# Altium footprint library KN2CLib.PcbLib: 180 footprints (part 3 of 12)
Each footprint in its own frame and in the unit in brackets; x right, y up, seen from the top. Pads: shape width x height; smd on the part's side, far side on the other; paste and mask are expansions set on the pad; w line width, h text height; cw(c..) or ccw(c..) is an arc to the next point about the centre after c.
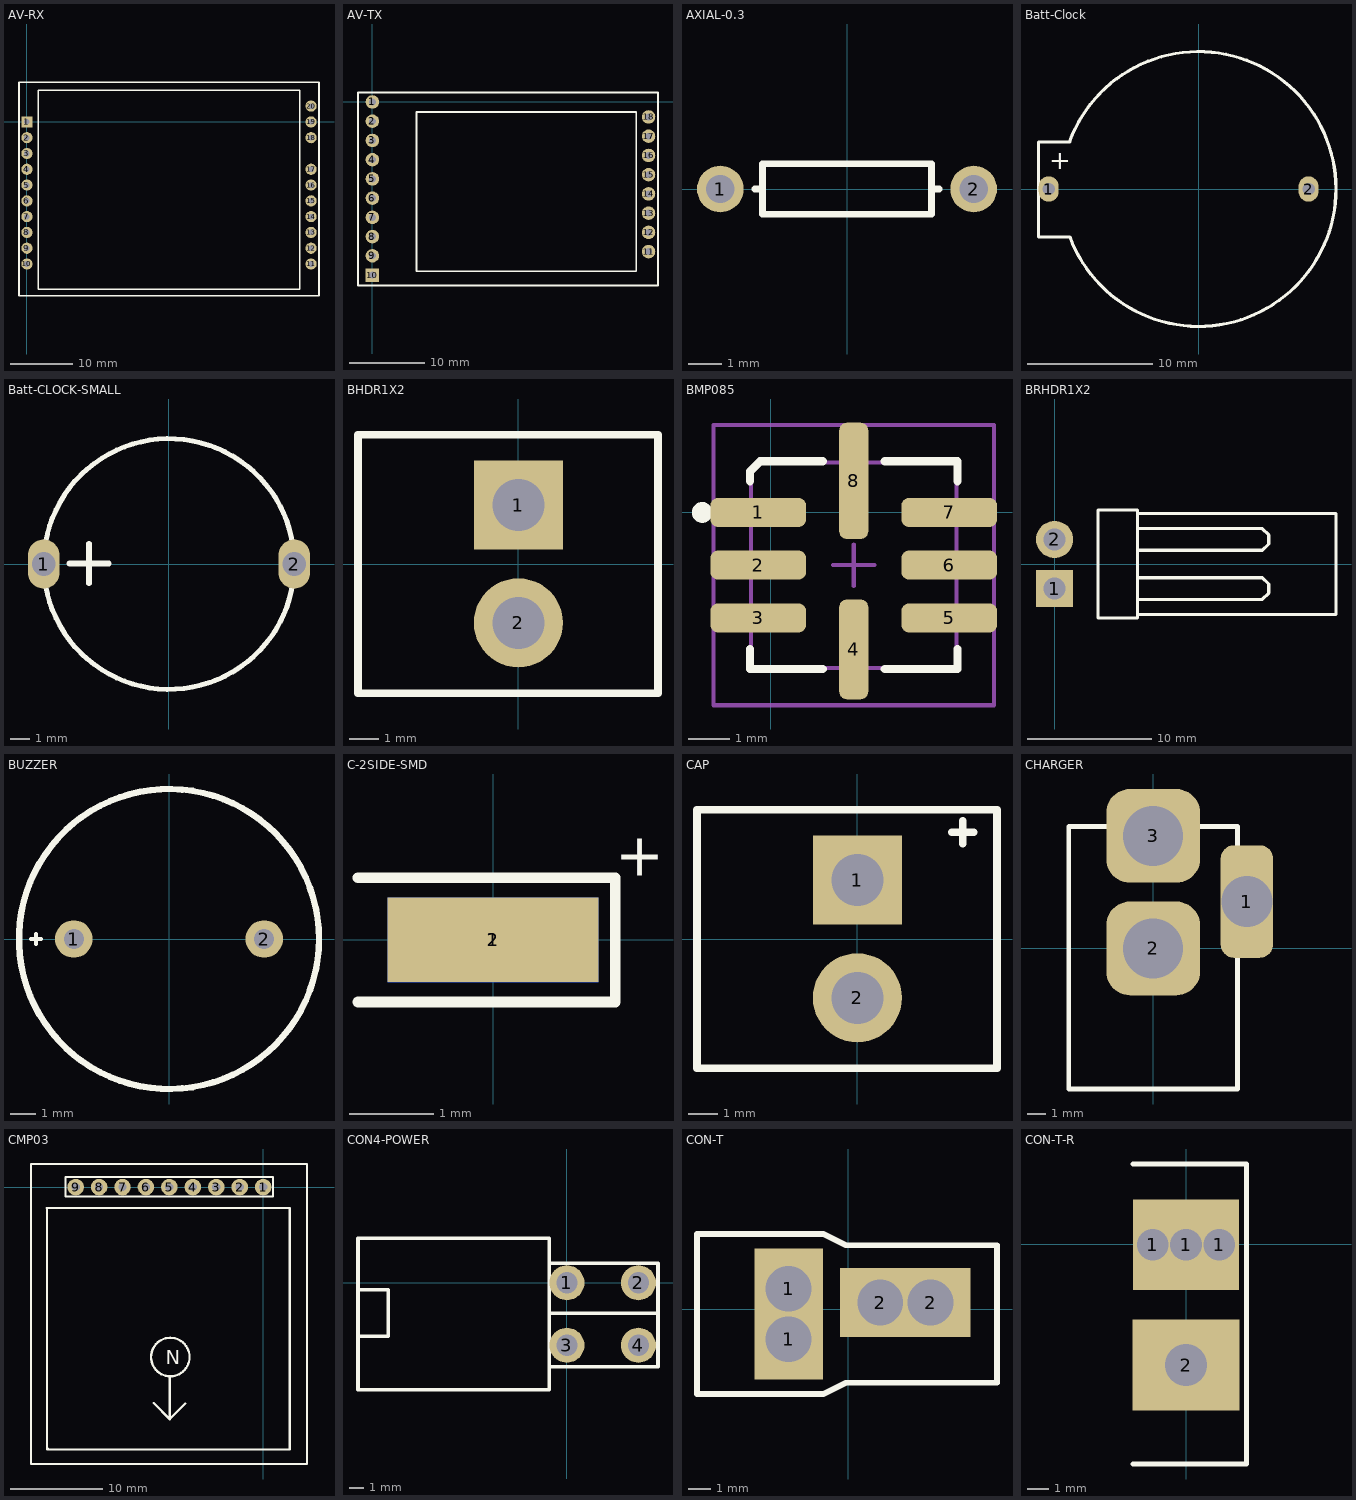
[diagram p2: the footprints below, top view; thin cyan lines are the x and y axes]

## AV-RX [mm]
pads (20):
  rect 1.8x1.8 hole 0.9: 1(0,0)
  round 1.8 hole 0.9: 2(0,-2.54) 3(0,-5.08) 4(0,-7.62) 5(0,-10.16) 6(0,-12.7) 7(0,-15.24) 8(0,-17.78) 9(0,-20.32) 10(0,-22.86) 11(45.72,-22.86) 12(45.72,-20.32) 13(45.72,-17.78) 14(45.72,-15.24) 15(45.72,-12.7) 16(45.72,-10.16) 17(45.72,-7.62) 18(45.72,-2.54) 19(45.72,0) 20(45.72,2.54)
Top Overlay:
  lines w0.254: 1.854,-26.92 1.854,5.08 43.854,5.08 ; 1.866,-26.924 43.866,-26.924 43.866,5.076 ; -1.27,-27.94 -1.27,6.35 46.99,6.35 46.99,-27.94 -1.27,-27.94
3D body: height 7.9, standoff 3.5, extent 1.803,-26.899 43.866,5.08
3D body: height 3.5, standoff 2.5, extent -1.295,-27.94 47.015,6.375
3D body: height 4, standoff 0, extent -0.498,-23.343 0.498,-22.345
3D body: height 4, standoff 0, extent -0.498,-20.803 0.498,-19.805
3D body: height 4, standoff 0, extent -0.498,-15.723 0.498,-14.725
3D body: height 4, standoff 0, extent -0.498,-18.263 0.498,-17.265
3D body: height 4, standoff 0, extent -0.498,-10.643 0.498,-9.645
3D body: height 4, standoff 0, extent -0.498,-13.183 0.498,-12.185
3D body: height 4, standoff 0, extent -0.498,-5.563 0.498,-4.565
3D body: height 4, standoff 0, extent -0.498,-8.103 0.498,-7.105
3D body: height 4, standoff 0, extent -0.498,-0.483 0.498,0.515
3D body: height 4, standoff 0, extent -0.498,-3.023 0.498,-2.025
3D body: height 4, standoff 0, extent 45.222,2.057 46.218,3.055
3D body: height 4, standoff 0, extent 45.222,-0.483 46.218,0.515
3D body: height 4, standoff 0, extent 45.222,-8.103 46.218,-7.105
3D body: height 4, standoff 0, extent 45.222,-10.643 46.218,-9.645
3D body: height 4, standoff 0, extent 45.222,-13.183 46.218,-12.185
3D body: height 4, standoff 0, extent 45.222,-15.723 46.218,-14.725
3D body: height 4, standoff 0, extent 45.222,-18.263 46.218,-17.265
3D body: height 4, standoff 0, extent 45.222,-20.803 46.218,-19.805
3D body: height 4, standoff 0, extent 45.222,-23.343 46.218,-22.345
3D body: height 4, standoff 0, extent 45.222,-3.023 46.218,-2.025

## AV-TX [mm]
pads (18):
  round 1.78 hole 0.9: 1(0,0) 2(0,-2.54) 3(0,-5.08) 4(0,-7.62) 5(0,-10.16) 6(0,-12.7) 7(0,-15.24) 8(0,-17.78) 9(0,-20.32) 11(36.471,-19.761) 12(36.471,-17.221) 13(36.471,-14.681) 14(36.471,-12.141) 15(36.471,-9.601) 16(36.471,-7.061) 17(36.471,-4.521) 18(36.471,-1.981)
  rect 1.78x1.78 hole 0.9: 10(0,-22.86)
Top Overlay:
  lines w0.254: 34.823,-22.352 5.842,-22.352 5.842,-1.346 34.845,-1.346 34.845,-22.352 ; -1.905,-24.257 -1.905,1.27 37.719,1.27 37.719,-24.257 -1.905,-24.257
3D body: height 4, standoff 0, extent -0.498,-23.343 0.498,-22.345
3D body: height 4, standoff 0, extent -0.498,-20.803 0.498,-19.805
3D body: height 4, standoff 0, extent -0.498,-15.723 0.498,-14.725
3D body: height 4, standoff 0, extent -0.498,-18.263 0.498,-17.265
3D body: height 4, standoff 0, extent -0.498,-10.643 0.498,-9.645
3D body: height 4, standoff 0, extent -0.498,-13.183 0.498,-12.185
3D body: height 4, standoff 0, extent -0.498,-5.563 0.498,-4.565
3D body: height 4, standoff 0, extent -0.498,-8.103 0.498,-7.105
3D body: height 4, standoff 0, extent -0.498,-0.483 0.498,0.515
3D body: height 4, standoff 0, extent -0.498,-3.023 0.498,-2.025
3D body: height 7.9, standoff 3.5, extent 5.462,-22.377 34.95,-1.397
3D body: height 3.5, standoff 2.5, extent -1.796,-24.359 37.871,1.422
3D body: height 4, standoff 0, extent 35.976,-5.029 36.972,-4.031
3D body: height 4, standoff 0, extent 35.976,-2.489 36.972,-1.491
3D body: height 4, standoff 0, extent 35.976,-10.109 36.972,-9.111
3D body: height 4, standoff 0, extent 35.976,-7.569 36.972,-6.571
3D body: height 4, standoff 0, extent 35.976,-15.189 36.972,-14.191
3D body: height 4, standoff 0, extent 35.976,-12.649 36.972,-11.651
3D body: height 4, standoff 0, extent 35.976,-20.269 36.972,-19.271
3D body: height 4, standoff 0, extent 35.976,-17.729 36.972,-16.731

## AXIAL-0.3 [mm]
height 1.524
pads (2):
  round 1.4 hole 0.85: 1(-3.81,0) 2(3.81,0)
Top Overlay:
  lines w0.2: -2.769,0 -2.54,0 ; 2.769,0 2.54,0 ; 2.54,0 2.54,-0.762 -2.54,-0.762 -2.54,0.762 2.54,0.762 2.54,0
3D body: height 2, standoff 0, extent -2.85,-0.875 2.85,0.875

## Batt-Clock [mm] "Clock-Battery-3V-CR2032"
pads (2):
  oval 1.6x2.032 hole 1: 1(-12,0) 2(8.8,0)
Top Overlay:
  lines w0.254: -12.827,3.759 -12.827,-3.835 -10.287,-3.835 ; -12.812,3.759 -10.312,3.759 ; -10.333,3.773 cw(c0,0) -10.31,-3.835
  text "+" at -11.938,1.575 h1.52

## Batt-CLOCK-SMALL [mm]
pads (2):
  oval 1.6x2.5 hole 1.2: 1(-6.35,0) 2(6.35,0)
Top Overlay:
  circle w0.254: c0,0 r6.35
  lines w0.3: -5.051,0.025 -3.051,0.025 ; -4.051,-0.975 -4.051,1.025
3D body: height 3, standoff 0.5, extent -5.953,-5.988 6,5.988

## BHDR1X2 [mm]
pads (2):
  rect 3x3 hole 1.75: 1(0,1.98)
  round 3 hole 1.75: 2(0,-1.98)
Top Overlay:
  lines w0.254: -5.4,-4.355 -5.4,4.355 4.7,4.355 4.7,-4.355 -5.4,-4.355
3D body: height 12.5, standoff 0, extent -5.525,-4.475 4.775,4.475

## BMP085 [mm] "LCC, 8-Pins"
height 1.2
pads (8):
  rrect50% 2.3x0.7 smd: 1(-0.3,0) 2(-0.3,-1.27) 3(-0.3,-2.54) 5(4.3,-2.54) 6(4.3,-1.27) 7(4.3,0)
  rrect50% 0.7x2.4 smd: 4(2,-3.3)
  rrect50% 0.7x2.8 smd: 8(2,0.76)
Top Overlay:
  circle w0.25: c-1.65,0 r0.125
  lines w0.2: -0.5,-3.29 -0.5,-3.77 1.25,-3.77 ; -0.5,0.75 -0.5,0.99 -0.26,1.23 1.25,1.23 ; 2.75,-3.77 4.5,-3.77 4.5,-3.29 ; 2.75,1.23 4.5,1.23 4.5,0.75
Mechanical 13:
  lines w0.1: -0.475,-3.745 -0.475,0.965 -0.235,1.205 4.475,1.205 4.475,-3.745 -0.475,-3.745
Mechanical 15:
  lines w0.1: 1.5,-1.27 2.5,-1.27 ; 2,-1.77 2,-0.77 ; -1.375,-4.645 -1.375,2.105 5.375,2.105 5.375,-4.645 -1.375,-4.645
3D body: height 1.2, standoff 0, extent -0.475,-3.745 4.475,1.205

## BRHDR1X2 [mm]
pads (2):
  rect 3x3 hole 1.75: 1(0,-1.98)
  round 3 hole 1.75: 2(0,1.98)
Top Overlay:
  lines w0.254: 6.7,-4.064 22.7,-4.064 22.7,4.064 6.7,4.064 ; 6.7,-2.855 16.764,-2.855 17.272,-2.347 17.272,-1.613 16.764,-1.105 6.7,-1.105 ; 6.7,1.105 16.764,1.105 17.272,1.613 17.272,2.347 16.764,2.855 6.7,2.855 ; 3.5,-4.355 6.7,-4.355 6.7,4.355 3.5,4.355 3.5,-4.355
3D body: height 4.5, standoff 3.4, extent -1.55,-3.525 3.55,3.625
3D body: height 9.2, standoff 0, extent 3.375,-4.525 22.85,4.525

## BUZZER [mm]
pads (2):
  round 1.5 hole 0.8: 1(-3.81,0) 2(3.81,0)
Top Overlay:
  circle w0.254: c0,0 r6
  lines w0.15: -5.516,0 -5.116,0 ; -5.316,-0.2 -5.316,0.2
3D body: height 9.3, standoff 0, extent -5.975,-6 5.975,5.975

## C-2SIDE-SMD [mm] "CAP - OUTSIDE BOARD"
pads (2):
  rect 2.5x1 smd: 1(0,0)
  rect 2.5x1 smd far side: 2(0,0)
Top Overlay:
  lines w0.127: -1.6,-0.737 1.448,-0.737 1.448,0.737 -1.6,0.737
  text "+" at 1.448,0.762 h0.51
Bottom Overlay:
  lines w0.127: -1.6,-0.737 1.448,-0.737 1.448,0.737 -1.6,0.737

## CAP [mm]
pads (2):
  rect 3x3 hole 1.75: 1(0,1.98)
  round 3 hole 1.75: 2(0,-1.98)
Top Overlay:
  lines w0.254: 3.185,3.597 3.912,3.597 ; 3.548,3.2 3.548,3.978 ; -5.4,-4.355 -5.4,4.355 4.7,4.355 4.7,-4.355 -5.4,-4.355
3D body: height 12.5, standoff 0, extent -5.525,-4.5 4.825,4.475

## CHARGER [mm]
pads (3):
  rrect50% 2.8x6 hole 2.7: 1(5,2.5)
  rrect50% 5x5 hole 3.2: 2(0,0) 3(0,6)
Top Overlay:
  lines w0.254: -4.5,-7.5 4.5,-7.5 4.5,6.5 -4.5,6.5 -4.5,-7.5
3D body: height 11.6, standoff 0, extent -4.625,-7.6 4.6,6.6

## CMP03 [mm]
pads (9):
  round 1.8 hole 0.9: 1(0,0) 2(-2.54,0) 3(-5.08,0) 4(-7.62,0) 5(-10.16,0) 6(-12.7,0) 7(-15.24,0) 8(-17.78,0) 9(-20.32,0)
Top Overlay:
  circle w0.254: c-10.061,-18.415 r2.085
  lines w0.254: -25.16,2.5 -25.16,-30 4.74,-30 4.74,2.5 ; -25.147,2.5 4.753,2.5 ; -23.317,-28.321 -23.419,-28.423 ; -11.862,-23.393 -10.135,-25.121 -10.135,-25.146 ; -10.135,-20.523 -10.135,-25.171 -10.135,-25.146 ; -8.433,-23.444 -10.135,-25.146 ; 2.87,-28.397 2.87,-2.261 -23.444,-2.261 -23.419,-2.286 -23.419,-28.423 ; 2.896,-28.423 -23.419,-28.423 ; -21.412,-1.016 -21.412,1.092 1.067,1.092 1.067,-1.016 -21.412,-1.016
  text "N" at -10.566,-19.177 h1.52

## CON4-POWER [mm] "CON4-For POWER-Right"
pads (4):
  round 2.5 hole 1.5: 1(0,0) 2(5.08,0) 3(0,-4.445) 4(5.08,-4.445)
Top Overlay:
  lines w0.254: -14.859,-3.81 -12.7,-3.81 -12.7,-0.508 -14.859,-0.508 ; -1.27,-5.969 6.477,-5.969 6.477,1.397 -1.27,1.397 ; -1.27,-2.159 6.477,-2.159 ; -14.859,-7.62 -1.27,-7.62 -1.27,3.175 -14.859,3.175 -14.859,-7.62
3D body: height 9.53, standoff 0, extent -14.859,-7.62 -1.27,3.175
3D body: height 2.54, standoff 0, extent -1.134,-1.134 0.89,0.894
3D body: height 2.54, standoff 0, extent -1.007,-5.457 1.017,-3.429
3D body: height 7.62, standoff 0, extent 4.075,-5.452 6.099,-3.424
3D body: height 7.62, standoff 0, extent 4.068,-1.143 6.092,0.885
3D body: height 8.64, standoff 6.6, extent 4.077,-5.45 6.099,-3.427
3D body: height 8.64, standoff 6.6, extent 4.069,-1.143 6.091,0.88
3D body: height 3.56, standoff 1.52, extent -1.132,-1.134 0.889,0.889
3D body: height 3.56, standoff 1.52, extent -1.005,-5.457 1.016,-3.433
3D body: height 3.55, standoff 1.52, extent -2.535,-5.461 0.005,-3.433
3D body: height 3.55, standoff 1.52, extent -2.662,-1.139 -0.122,0.889
3D body: height 8.63, standoff 6.6, extent -2.54,-1.143 5.08,0.885
3D body: height 8.63, standoff 6.6, extent -2.533,-5.452 5.087,-3.424
3D body: height 10.67, standoff 7.62, extent -14.859,-3.81 -12.7,-0.508

## CON-T [mm]
pads (4):
  rect 3x3.5 hole 2: 1(-2.6,-1.3) 1(-2.6,0.9)
  rect 3.5x3 hole 2: 2(1.4,0.3) 2(3.6,0.3)
Top Overlay:
  lines w0.254: -6.6,-3.7 -1.1,-3.7 -0.1,-3.2 6.5,-3.2 6.5,2.8 -0.1,2.8 -1.1,3.3 -6.6,3.3 -6.6,-3.7
3D body: height 7, standoff 0, extent -6.628,-0.508 6.453,3.29
3D body: height 7, standoff 0, extent -6.628,-3.544 6.453,0.254
3D body: height 6.75, standoff 0, extent -4.242,-0.203 -0.94,2.845
3D body: height 6.75, standoff 0, extent -4.242,-3.251 -0.94,-0.203
3D body: height 6.75, standoff 0, extent -0.559,0.305 5.563,2.007
3D body: height 6.75, standoff 0, extent -0.559,-1.448 5.563,0.254

## CON-T-R [mil] "T- Connector-for Battery - RIGHT - PIN 1->+ And PIN 2->-"
pads (4):
  rect 74.8x170 hole 59.06: 1(-62,-1) 1(0,-1) 1(62,-1)
  rect 200x170 hole 78.74: 2(0,-226)
Top Overlay:
  lines w10: -99,-411 113,-411 113,150 -99,150
3D body: height 157.48, standoff -157.48, extent -335,-410 -103,150